# EAGLE library part ADAFRUIT_BLE_SPI_FRIEND (library LinnesLab-Microcontrollers)
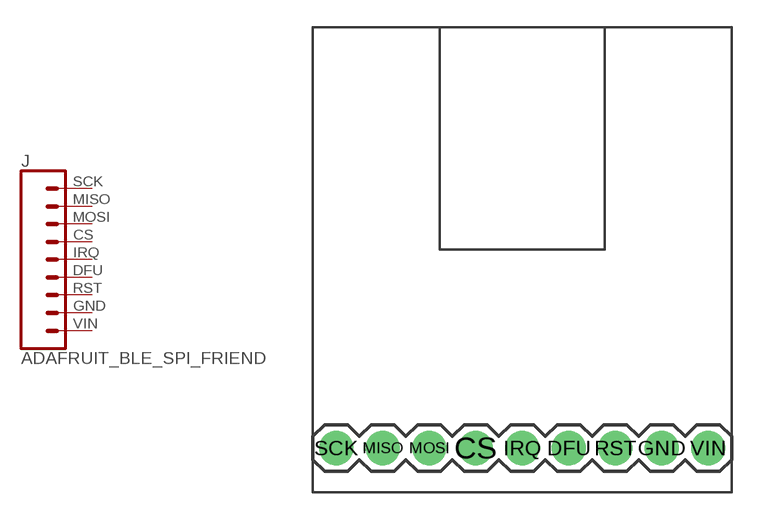
[diagram p19: symbol with the pads of ADAFRUIT_BLE_SPI_FRIEND; footprint ADAFRUIT_BLE_SPI_FRIEND]

Designator prefix J

## ADAFRUIT_BLE_SPI_FRIEND  [ADAFRUIT_BLE_SPI_FRIEND]
CS  4  pas
DFU  6  pas
GND  8  pas
IRQ  5  pas
MISO  2  pas
MOSI  3  pas
RST  7  pas
SCK  1  pas
VIN  9  pas

## Footprint ADAFRUIT_BLE_SPI_FRIEND (pad centres in mm)
Plated Through Hole -9 Pin Specifications: Pin count:9 Pin pitch:0.1" Example device(s): CONN_09
drill 1.016 pad 1.88: CS 8.89,2.54; DFU 13.97,2.54; GND 19.05,2.54; IRQ 11.43,2.54; MISO 3.81,2.54; MOSI 6.35,2.54; RST 16.51,2.54; SCK 1.27,2.54; VIN 21.59,2.54